# Altium schematic symbol library rezystory.SchLib: 1 symbol
Pins are listed as number, name and electrical type; pins without a type are passive.

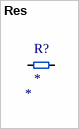
[diagram p0: symbol Res]

## Res
designator R?
Tolerance: *; Package: 0805; Part number: *; Manufacterer: *; Footprint type: SMD; Pin count: 2; Value: *
footprint R0805
pins: 1, 2